# EAGLE library part 692122030100 (library 692122030100)
Wurth Elektronik WR-COM Series, Right Angle Through Hole, Version 3.0 Type A USB Connector, Receptacle Source: Datasheet <https://componentsearchengine.com//692122030100.pdf>
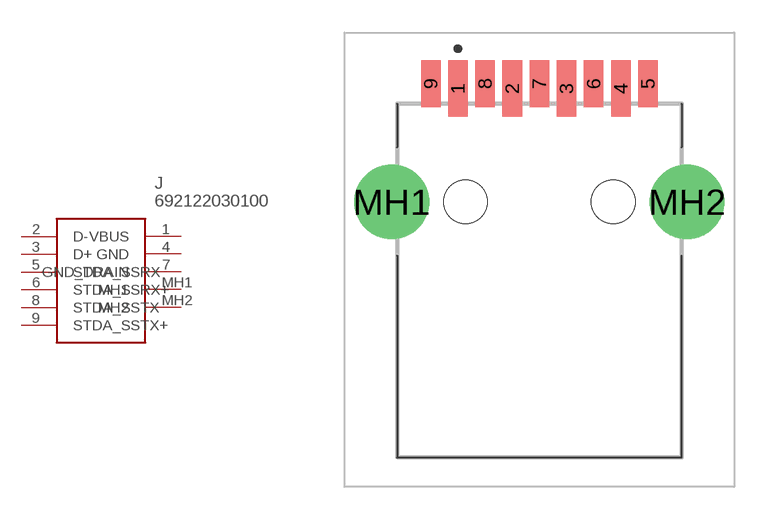
[diagram p0: symbol with the pads of 692122030100; footprint 692122030100]

Designator prefix J

## 692122030100 (Description: Wurth Elektronik WR-COM Series, Right Angle Through Hole, Version 3.0 Type A USB Connector, Receptacle; Height: 7.55mm; Manufacturer_Name: Wurth Elektronik; Manufacturer_Part_Number: 692122030100; Mouser2_Part_Number: 710-692122030100; Mouser2_Price-Stock: https://www.mouser.com/Search/Refine.aspx?Keyword=710-692122030100)  [692122030100]
1  VBUS
2  D-
3  D+
4  GND
5  STDA_SSRX
6  STDA_SSRX+
7  GND_DRAIN
8  STDA_SSTX
9  STDA_SSTX+
MH1  MH1
MH2  MH2

## Footprint 692122030100 (pad centres in mm)
692122030100
smd 0.9 x 2.6: 1 -3.75,5.22; 2 -1.25,5.22; 3 1.25,5.22; 4 3.75,5.22
smd 0.9 x 2.15: 5 5,5.445; 6 2.5,5.445; 7 0,5.445; 8 -2.5,5.445; 9 -5,5.445
drill 2.292 pad 3.438: MH1 -6.8,0; MH2 6.8,0
hole 2 at -3.4,0
hole 2 at 3.4,0